# EAGLE library part DRV8833 (library vibhud)
DRV8833 Dual H-Bridge Motor Driver -- HTSSOP Package
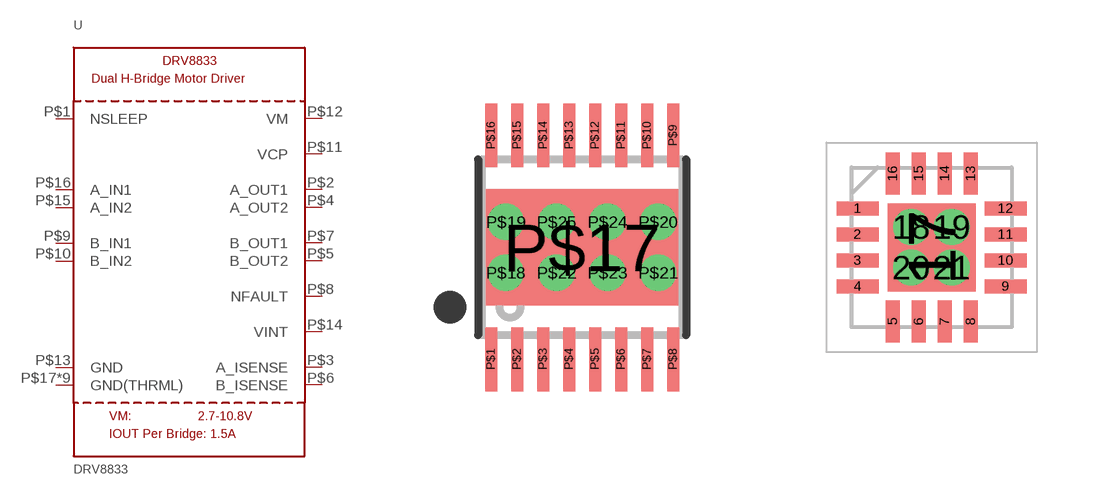
[diagram p5: symbol with the pads of HTSSOP16; footprints HTSSOP16, QFN65P400X400X80-17N]

Designator prefix U

## DRV8833  [HTSSOP16]
P$1  NSLEEP  in
P$2  A_OUT1  out
P$3  A_ISENSE
P$4  A_OUT2  out
P$5  B_OUT2  out
P$6  B_ISENSE
P$7  B_OUT1  out
P$8  NFAULT
P$9  B_IN1  in
P$10  B_IN2  in
P$11  VCP
P$12  VM  pwr
P$13  GND  pwr
P$14  VINT  pwr
P$15  A_IN2  in
P$16  A_IN1  in
P$17  GND(THRML)  pwr
P$18  GND(THRML)  pwr
P$19  GND(THRML)  pwr
P$20  GND(THRML)  pwr
P$21  GND(THRML)  pwr
P$22  GND(THRML)  pwr
P$23  GND(THRML)  pwr
P$24  GND(THRML)  pwr
P$25  GND(THRML)  pwr

## DRV8833QFN16  [QFN65P400X400X80-17N]
1  A_ISENSE
2  A_OUT2  out
3  B_OUT2  out
4  B_ISENSE
5  B_OUT1  out
6  NFAULT
7  B_IN1  in
8  B_IN2  in
9  VCP
10  VM  pwr
11  GND  pwr
12  VINT  pwr
13  A_IN2  in
14  A_IN1  in
15  NSLEEP  in
16  A_OUT1  out
17  GND(THRML)  pwr
18  GND(THRML)  pwr
19  GND(THRML)  pwr
20  GND(THRML)  pwr
21  GND(THRML)  pwr

## DRV8833COMBO  [DRV8833_COMBO]
AIN1.Q14  A_IN1  in
AIN1.T16  A_IN1  in
AIN2.Q13  A_IN2  in
AIN2.T15  A_IN2  in
AISEN.Q1  A_ISENSE
AISEN.T3  A_ISENSE
AOUT1.Q16  A_OUT1  out
AOUT1.T2  A_OUT1  out
AOUT2.Q2  A_OUT2  out
AOUT2.T4  A_OUT2  out
BIN1.Q7  B_IN1  in
BIN1.T9  B_IN1  in
BIN2.Q8  B_IN2  in
BIN2.T10  B_IN2  in
BISEN.Q4  B_ISENSE
BISEN.T6  B_ISENSE
BOUT1.Q5  B_OUT1  out
BOUT1.T7  B_OUT1  out
BOUT2.Q3  B_OUT2  out
BOUT2.T5  B_OUT2  out
GND.P0  GND(THRML)  pwr
GND.P1  GND(THRML)  pwr
GND.P2  GND(THRML)  pwr
GND.P3  GND(THRML)  pwr
GND.P4  GND(THRML)  pwr
GND.P5  GND(THRML)  pwr
GND.Q11  GND  pwr
GND.T13  GND  pwr
NFAULT.Q6  NFAULT
NFAULT.T8  NFAULT
NSLEEP.Q15  NSLEEP  in
NSLEEP.T1  NSLEEP  in
VCP.Q9  VCP
VCP.T11  VCP
VINT.Q12  VINT  pwr
VINT.T14  VINT  pwr
VM.Q10  VM  pwr
VM.T12  VM  pwr

## Footprint HTSSOP16 (pad centres in mm)
HTSSOP 16 (5x4.4mm 0.65mm Pitch) Source: http://www.ti.com/lit/ds/slvsar1b/slvsar1b.pdf
smd 0.3 x 1.6: P$1 -2.275,-2.8; P$2 -1.625,-2.8; P$3 -0.975,-2.8; P$4 -0.325,-2.8; P$5 0.325,-2.8; P$6 0.975,-2.8; P$7 1.625,-2.8; P$8 2.275,-2.8; P$9 2.275,2.8; P$10 1.625,2.8; P$11 0.975,2.8; P$12 0.325,2.8; P$13 -0.325,2.8; P$14 -0.975,2.8; P$15 -1.625,2.8; P$16 -2.275,2.8
smd 4.8 x 2.921: P$17 0,0
drill 0.4 pad 0.61: P$18 -1.905,-0.635; P$19 -1.905,0.635; P$20 1.905,0.635; P$21 1.905,-0.635
drill 0.4 pad 0.813: P$22 -0.635,-0.635; P$23 0.635,-0.635; P$24 0.635,0.635; P$25 -0.635,0.635

## Footprint QFN65P400X400X80-17N (pad centres in mm)
RTY (S-PWQFN-N16)_EP2.1
smd 1.05 x 0.35: 1 -1.85,0.975; 2 -1.85,0.325; 3 -1.85,-0.325; 4 -1.85,-0.975; 9 1.85,-0.975; 10 1.85,-0.325; 11 1.85,0.325; 12 1.85,0.975
smd 0.35 x 1.05: 5 -0.975,-1.85; 6 -0.325,-1.85; 7 0.325,-1.85; 8 0.975,-1.85; 13 0.975,1.85; 14 0.325,1.85; 15 -0.325,1.85; 16 -0.975,1.85
smd 2.2 x 2.2: 17 0,0
drill 0.4 pad 0.61: 18 -0.508,0.508; 19 0.508,0.508; 20 -0.508,-0.508; 21 0.508,-0.508

## Footprint DRV8833_COMBO (pad centres in mm)
smd 0.35 x 1.05: AIN1.Q14 0.325,1.95; AIN2.Q13 0.975,1.95; AOUT1.Q16 -0.975,1.95; BIN1.Q7 0.325,-1.95; BIN2.Q8 0.975,-1.95; BOUT1.Q5 -0.975,-1.95; NFAULT.Q6 -0.325,-1.95; NSLEEP.Q15 -0.325,1.95
smd 1.5 x 0.35: AIN1.T16 2.9,2.275; AIN2.T15 2.9,1.625; AISEN.T3 -2.9,0.975; AOUT1.T2 -2.9,1.625; AOUT2.T4 -2.9,0.325; BIN1.T9 2.9,-2.275; BIN2.T10 2.9,-1.625; BISEN.T6 -2.9,-0.975; BOUT1.T7 -2.9,-1.625; BOUT2.T5 -2.9,-0.325; GND.T13 2.9,0.325; NFAULT.T8 -2.9,-2.275; NSLEEP.T1 -2.9,2.275; VCP.T11 2.9,-0.975; VINT.T14 2.9,0.975; VM.T12 2.9,-0.325
smd 1 x 0.35: AISEN.Q1 -1.9,0.975; AOUT2.Q2 -1.9,0.325; BISEN.Q4 -1.9,-0.975; BOUT2.Q3 -1.9,-0.325; GND.Q11 1.9,0.325; VCP.Q9 1.9,-0.975; VINT.Q12 1.9,0.975; VM.Q10 1.9,-0.325
smd 2.1 x 2.1: GND.P0 0,0
drill 0.3 pad 0.61: GND.P1 -0.65,0.65; GND.P2 0.65,0.65; GND.P3 0,0; GND.P4 -0.65,-0.65; GND.P5 0.65,-0.65